# EAGLE library part 6871XX14022_68713614022 (library Wurth_Connectors_WR-FPC)
WR-FPC 0.50 mm SMT ZIF Horizontal Top Contact KIND PROPERTIES Pitch 0.5 mm MATERIAL PROPERTIES Insulator Material LCP Contact Material Phosphor Bronze Contact Plating 100 (µ") Tin over 50 (µ") Nickel Contact Type Stamped Solder Tabs Brass <https://www.we-online.com/catalog/media/o32866v209%20Family_WE-FPC_6871xx14022.jpg> Details see: https://www.we-online.com/catalog/en/FPC_0_5_SMT_ZIF_HORIZONTAL_TOP_CONTACT_6871XX14022/ Updated by Ella Wu 2020-08-26 2020(C) Wurth Elektronik
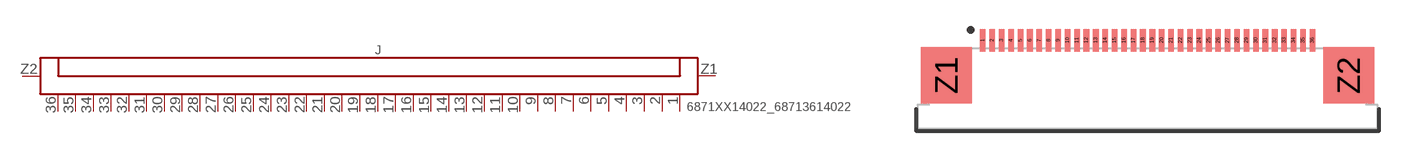
[diagram p11: symbol with the pads of 68713614022; footprint 68713614022]

Designator prefix J

## 6871XX14022_68713614022 (CONTACT-RESISTANCE: 20mOhm; DATASHEET-URL: https://www.we-online.com/catalog/datasheet/68713614022.pdf; IR: 0.5A; L: 24.4mm; PACKAGING: Tape and Reel; PART-NUMBER: 68713614022; PINS: 36; PITCH: 0.5mm; TYPE: Horizontal; VALUE: 68713614022; WORKING-VOLTAGE: 50V(AC))  [68713614022]
1  1  pas
2  2  pas
3  3  pas
4  4  pas
5  5  pas
6  6  pas
7  7  pas
8  8  pas
9  9  pas
10  10  pas
11  11  pas
12  12  pas
13  13  pas
14  14  pas
15  15  pas
16  16  pas
17  17  pas
18  18  pas
19  19  pas
20  20  pas
21  21  pas
22  22  pas
23  23  pas
24  24  pas
25  25  pas
26  26  pas
27  27  pas
28  28  pas
29  29  pas
30  30  pas
31  31  pas
32  32  pas
33  33  pas
34  34  pas
35  35  pas
36  36  pas
Z1  Z1  pas
Z2  Z2  pas

## Footprint 68713614022 (pad centres in mm)
WR-FPC 0.50 mm SMT ZIF Horizontal Top Contact ,36pins
smd 0.3 x 1.2: 1 -8.75,2.35; 2 -8.25,2.35; 3 -7.75,2.35; 4 -7.25,2.35; 5 -6.75,2.35; 6 -6.25,2.35; 7 -5.75,2.35; 8 -5.25,2.35; 9 -4.75,2.35; 10 -4.25,2.35; 11 -3.75,2.35; 12 -3.25,2.35; 13 -2.75,2.35; 14 -2.25,2.35; 15 -1.75,2.35; 16 -1.25,2.35; 17 -0.75,2.35; 18 -0.25,2.35; 19 0.25,2.35; 20 0.75,2.35; 21 1.25,2.35; 22 1.75,2.35; 23 2.25,2.35; 24 2.75,2.35; 25 3.25,2.35; 26 3.75,2.35; 27 4.25,2.35; 28 4.75,2.35; 29 5.25,2.35; 30 5.75,2.35; 31 6.25,2.35; 32 6.75,2.35; 33 7.25,2.35; 34 7.75,2.35; 35 8.25,2.35; 36 8.75,2.35
smd 2.7 x 3: Z1 -10.68,0.49; Z2 10.68,0.49